# EAGLE library part LM393 (library IC_Linear)
Dual Comparators Reference Datasheet <https://www.ti.com/lit/ds/symlink/lm393-n.pdf?ts=1637561071595&ref_url=https%253A%252F%252Fwww.google.com%252F>
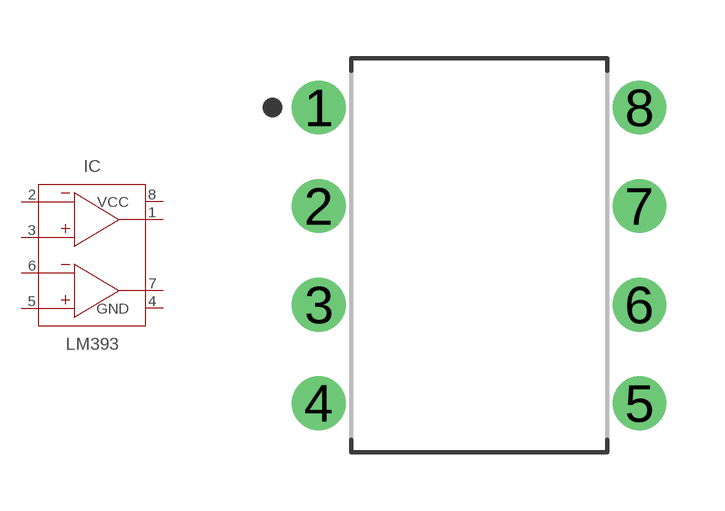
[diagram p1: symbol with the pads of DIP826W53P254L959H508Q8B; footprint DIP826W53P254L959H508Q8B]

Designator prefix IC

## LM393_DIP (CATEGORY: Analog Comparators; DESCRIPTION: Differential Dual Comparator; MANUFACTURER: Generic; MPN: Generic; SERIES: LM393; SUB-CATEGORY: Comparator; TYPE: Dual; VALUE: LM393), LM393N/NOPB_DIP (CATEGORY: Analog Comparators; DESCRIPTION: IC COMP DUAL LO PWR 8-DIP; MANUFACTURER: Texas Instruments; MPN: LM393N/NOPB; OPERATING_TEMP: 0°C ~ 70°C; PART_STATUS: Active; ROHS_COMPLIANT: ROHS3 Compliant; SERIES: LM393; SUB-CATEGORY: Comparator; TYPE: Dual; VALUE: LM393)  [DIP826W53P254L959H508Q8B]
1  OUT1  out
2  -IN1  in
3  +IN1  in
4  GND
5  +IN2  in
6  -IN2  in
7  OUT2  out
8  VCC

## Footprint DIP826W53P254L959H508Q8B (pad centres in mm)
8-DIP, 2.54 mm (0.10 in) pitch, 8.26 mm (0.33 in) span, 9.59 X 6.35 X 5.08 mm body 8-pin DIP package with 2.54 mm (0.10 in) pitch, 8.26 mm (0.33 in) span with body size 9.59 X 6.35 X 5.08 mm
drill 0.786 pad 1.386: 1 -4.13,3.81; 2 -4.13,1.27; 3 -4.13,-1.27; 4 -4.13,-3.81; 5 4.13,-3.81; 6 4.13,-1.27; 7 4.13,1.27; 8 4.13,3.81